# EAGLE library part LCD-HD44780-12-PIN_FEMALE_HEADER (library myLib-01-Headers)
Header for the 16 pin HD44780 LCD module Female 12-pin used
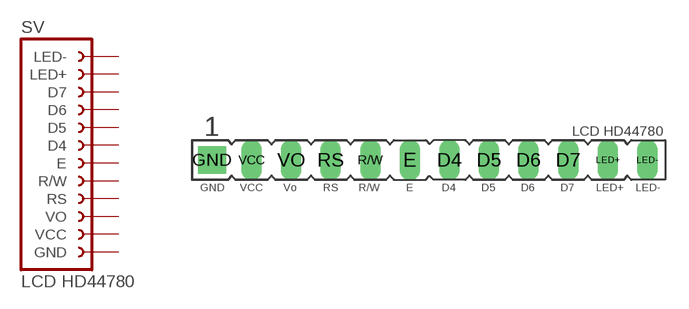
[diagram p9: symbol with the pads of LCD-HD44780-12-PIN_FEMALE_HEADER; footprint LCD-HD44780-12-PIN_FEMALE_HEADER]

Designator prefix SV

## LCD-HD44780-12-PIN_FEMALE_HEADER  [LCD-HD44780-12-PIN_FEMALE_HEADER]
D4  D4  pas
D5  D5  pas
D6  D6  pas
D7  D7  pas
E  E  pas
GND  GND  pas
LED+  LED+  pas
LED-  LED-  pas
R/W  R/W  pas
RS  RS  pas
VCC  VCC  pas
VO  VO  pas

## Footprint LCD-HD44780-12-PIN_FEMALE_HEADER (pad centres in mm)
FEMALE HEADER
drill 0.813 long: D4 15.24,0; D5 17.78,0; D6 20.32,0; D7 22.86,0; E 12.7,0; LED+ 25.4,0; LED- 27.94,0; R/W 10.16,0; RS 7.62,0; VCC 2.54,0; VO 5.08,0
drill 0.813 pad 1.778 square: GND 0,0